# Altium schematic symbol library 3313J-1-503E.SchLib: 1 symbol
Pins are listed as number, name and electrical type; pins without a type are passive.

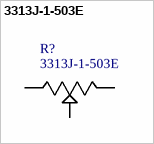
[diagram p0: symbol 3313J-1-503E]

## 3313J-1-503E
designator R?
SnapEDA_Link: https://www.snapeda.com/parts/3313J-1-503E/Bourns/view-part/327155/?ref=snap; Value: *
footprint *TRIM_3313J-1-503E
pins: 1 CCW, 2 WIPER, 3 CW